# Altium footprint library MotorDriverPCB.PcbLib: 1 footprints
Each footprint in its own frame and in the unit in brackets; x right, y up, seen from the top. Pads: shape width x height; smd on the part's side, far side on the other; paste and mask are expansions set on the pad; w line width, h text height; cw(c..) or ccw(c..) is an arc to the next point about the centre after c.
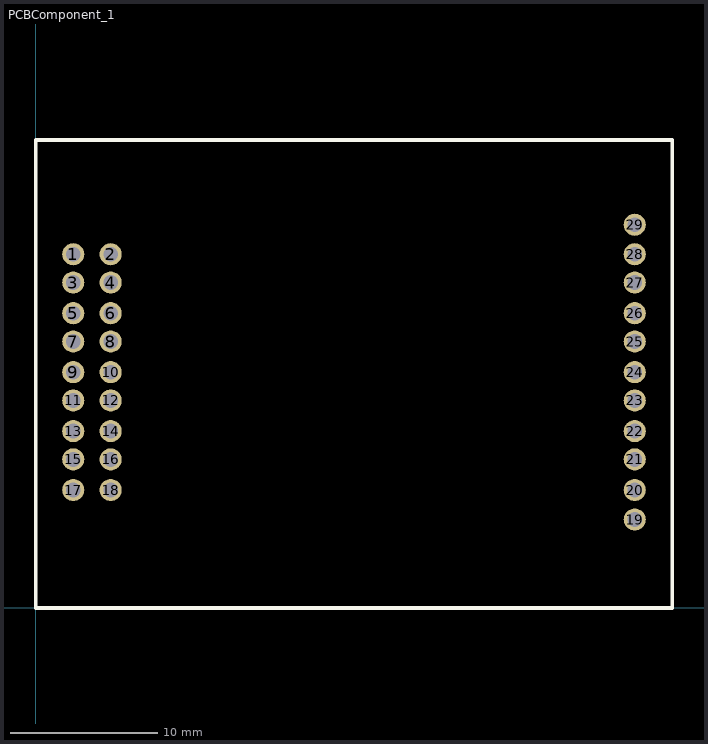
[diagram p0: the footprint, top view; thin cyan lines are the x and y axes]

## PCBComponent_1 [mm]
pads (29):
  round 1.5 hole 1 mask+0.064: 1(2.54,24) 2(5.08,24) 3(2.54,22.08) 4(5.08,22.08) 5(2.54,20) 6(5.08,20) 7(2.54,18.08) 8(5.08,18.08) 9(2.54,16) 10(5.08,16) 11(2.54,14.08) 12(5.08,14.08) 13(2.54,12) 14(5.08,12) 15(2.54,10.08) 16(5.08,10.08) 17(2.54,8) 18(5.08,8) 19(40.64,6) 20(40.64,8) 21(40.64,10.08) 22(40.64,12) 23(40.64,14.08) 24(40.64,16) 25(40.64,18.08) 26(40.64,20) 27(40.64,22.08) 28(40.64,24) 29(40.64,26)
Top Overlay:
  lines w0.254: 0,0 43.18,0 43.18,31.75 0,31.75 0,0